# EAGLE library part DRV8312 (library DRV8312)
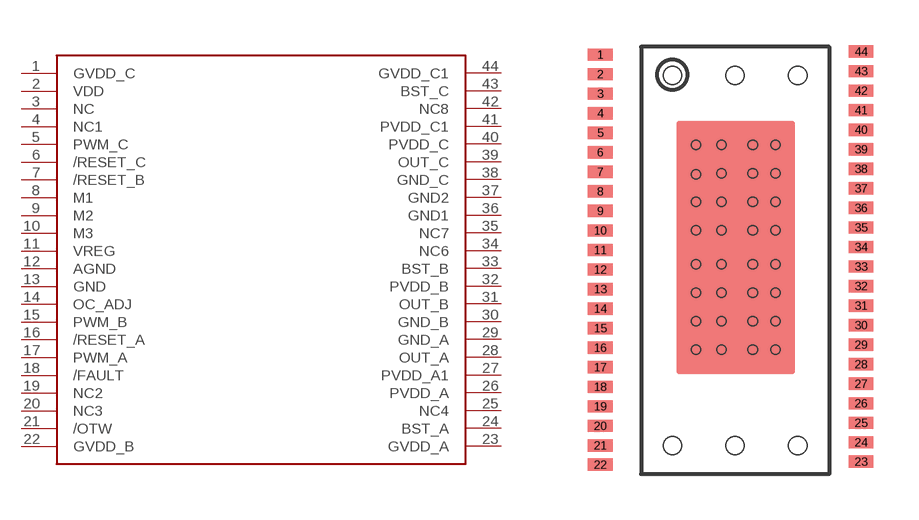
[diagram p0: symbol with the pads of DDW; footprint DDW]

Designator prefix -

## DRV8312  [DDW]
1  GVDD_C
2  VDD
3  NC
4  NC1
5  PWM_C
6  /RESET_C
7  /RESET_B
8  M1
9  M2
10  M3
11  VREG
12  AGND
13  GND
14  OC_ADJ
15  PWM_B
16  /RESET_A
17  PWM_A
18  /FAULT
19  NC2
20  NC3
21  /OTW
22  GVDD_B
23  GVDD_A
24  BST_A
25  NC4
26  PVDD_A
27  PVDD_A1
28  OUT_A
29  GND_A
30  GND_B
31  OUT_B
32  PVDD_B
33  BST_B
34  NC6
35  NC7
36  GND1
37  GND2
38  GND_C
39  OUT_C
40  PVDD_C
41  PVDD_C1
42  NC8
43  BST_C
44  GVDD_C1

## Footprint DDW (pad centres in mm)
smd 0.813 x 0.406: 1 -1.345,13.845; 2 -1.345,13.2; 3 -1.345,12.555; 4 -1.345,11.91; 5 -1.345,11.265; 6 -1.345,10.62; 7 -1.345,9.975; 8 -1.345,9.33; 9 -1.345,8.685; 10 -1.345,8.04; 11 -1.345,7.395; 12 -1.345,6.75; 13 -1.345,6.105; 14 -1.345,5.46; 15 -1.345,4.815; 16 -1.345,4.17; 17 -1.345,3.525; 18 -1.345,2.88; 19 -1.345,2.235; 20 -1.345,1.59; 21 -1.345,0.945; 22 -1.345,0.31; 23 7.255,0.41; 24 7.255,1.045; 25 7.255,1.69; 26 7.255,2.335; 27 7.255,2.98; 28 7.255,3.625; 29 7.255,4.27; 30 7.255,4.915; 31 7.255,5.56; 32 7.255,6.205; 33 7.255,6.85; 34 7.255,7.495; 35 7.255,8.14; 36 7.255,8.785; 37 7.255,9.43; 38 7.255,10.075; 39 7.255,10.72; 40 7.255,11.365; 41 7.255,12.01; 42 7.255,12.655; 43 7.255,13.3; 44 7.255,13.945
hole 0.3 at 1.808,10.863
hole 0.3 at 2.658,10.863
hole 0.3 at 1.808,9.887
hole 0.3 at 2.658,9.925
hole 0.3 at 1.808,8.988
hole 0.3 at 1.808,8.05
hole 0.3 at 2.658,8.05
hole 0.3 at 2.658,8.988
hole 0.3 at 3.683,10.863
hole 0.3 at 4.433,10.863
hole 0.3 at 3.683,9.925
hole 0.3 at 4.433,9.925
hole 0.3 at 3.683,8.988
hole 0.3 at 3.683,8.05
hole 0.3 at 4.433,8.05
hole 0.3 at 4.433,8.988
hole 0.3 at 1.808,6.925
hole 0.3 at 2.658,6.925
hole 0.3 at 1.808,5.987
hole 0.3 at 2.658,5.987
hole 0.3 at 1.808,5.05
hole 0.3 at 1.808,4.112
hole 0.3 at 2.658,4.112
hole 0.3 at 2.658,5.05
hole 0.3 at 3.683,6.925
hole 0.3 at 4.433,6.925
hole 0.3 at 3.683,5.987
hole 0.3 at 4.433,5.987
hole 0.3 at 3.683,5.05
hole 0.3 at 3.683,4.112
hole 0.3 at 4.433,4.112
hole 0.3 at 4.433,5.05
hole 0.6 at 1.033,0.94
hole 0.6 at 3.1,0.94
hole 0.6 at 5.167,0.94
hole 0.6 at 1.033,13.16
hole 0.6 at 3.1,13.16
hole 0.6 at 5.167,13.16